# Altium schematic symbol library NNLightSwitcher.SchLib: 97 symbols (part 3 of 3)
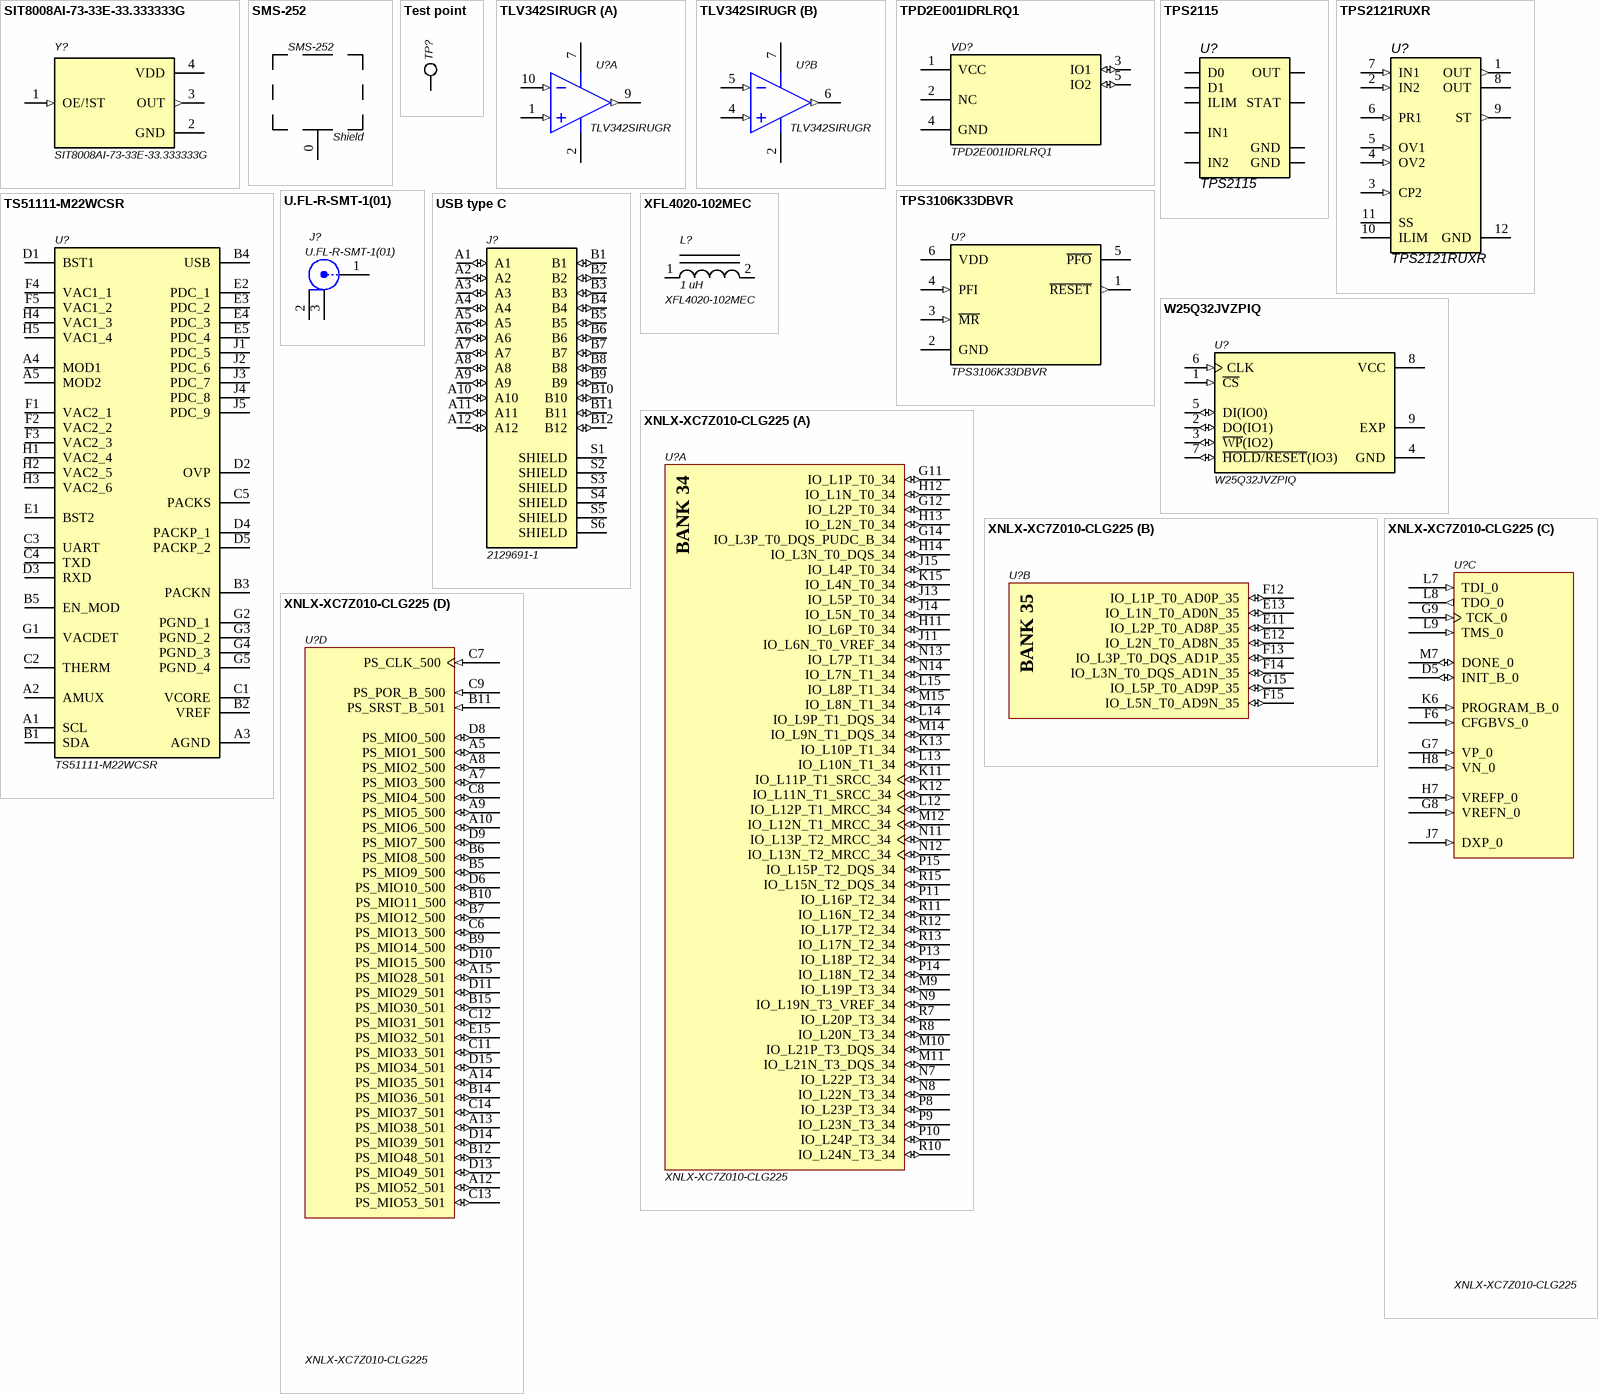
[diagram p6: symbols SIT8008AI-73-33E-33.333333G to XNLX-XC7Z010-CLG225]

## USB type C
designator J?, comment 2129691-1
Conn USB 3.1 Type C RCP 24 POS Solder RA SMD/Thru-Hole 24 Terminal 1 Port Automotive T/R; Manufacturer 1: TE Connectivity AMP; Product_Type: Connector; Centerline_Pitch: .5 mm[.019 in]; Number_of_Positions: 24; MF: TE Connectivity; Plating: Bright; Gender: Receptacle; Plating Thickness: 0.75um; Number of Ports: 1; USB Standard: USB 3.1; Contact Current Rating: 5A; Circuit Application: Signal; Connector System: Cable-to-Board; Pitch: 0.5mm; TE_purchase_URL: https://www.te.com/usa-en/product-2129691-1.html?te_bu=Cor&te_type=disp&te_campaign=seda_glo_cor-seda-global-disp-prtnr-fy19-seda-model-bom-cta_sma-317_1&elqCampaignId=32493; Package: None; MP: 2129691-1; Price: None; Availability: Unavailable; SnapEDA_Link: https://www.snapeda.com/parts/2129691-1/TE%20Connectivity%20AMP%20Connectors/view-part/?ref=snap; Value: *; Supplier 1: Mouser; Manufacturer Part Number 1: 2129691-1; Stock 1: 8733; Pricing 1: 1=2,88000, 10=2,76000, 25=2,53000, 50=2,42000, 100=2,30000, 250=2,01000, 500=1,96000, 1000=1,67000, 2000=1,65000, 10000=1,65000 (USD); RoHS: Yes; Mount: Surface Mount; Number of Pins: 24; Contact Material: Copper Alloy; Contact Plating: Nickel,Gold; Housing Color: Black; Housing Material: Thermoplastic; Min Operating Temperature: -30°C; Max Operating Temperature: 85°C; Orientation: Right Angle; Packaging: Tape and Reel; Termination: Solder; Connector Type: Receptacle; Number of Positions: 24; Length: 12.35mm; REACH SVHC: Unknown; Lead Free: Lead Free; ComponentLink1URL: https://media.digikey.com/pdf/Data%20Sheets/Tyco%20Electonics%20AMP%20PDFs/2129691_Dwg.pdf?src-supplier=Digi-Key; ComponentLink1Description: https://media.digikey.com/pdf/Data%20Sheets/Tyco%20Electonics%20AMP%20PDFs/2129691_Dwg.pdf?src-supplier=Digi-Key; ComponentLink2URL: http://www.farnell.com/datasheets/2292385.pdf?src-supplier=Farnell; ComponentLink2Description: http://www.farnell.com/datasheets/2292385.pdf?src-supplier=Farnell; ComponentLink3URL: http://www.farnell.com/datasheets/1993946.pdf?src-supplier=Farnell; ComponentLink3Description: http://www.farnell.com/datasheets/1993946.pdf?src-supplier=Farnell; ComponentLink4URL: http://www.alliedelec.com/images/products/datasheets/bm/TE_Connectivity/70718395.pdf?src-supplier=Allied+Electronics; ComponentLink4Description: http://www.alliedelec.com/images/products/datasheets/bm/TE_Connectivity/70718395.pdf?src-supplier=Allied+Electronics; ComponentLink5URL: http://www.farnell.com/cad/1993947.pdf?src-supplier=Element14; ComponentLink5Description: http://www.farnell.com/cad/1993947.pdf?src-supplier=Element14; ComponentLink6URL: http://www.farnell.com/datasheets/1993946.pdf?src-supplier=Element14; ComponentLink6Description: http://www.farnell.com/datasheets/1993946.pdf?src-supplier=Element14; ComponentLink7URL: http://www.te.com/commerce/DocumentDelivery/DDEController?Action=showdoc&DocId=Customer+Drawing%7F2129691%7F6%7Fpdf%7FEnglish%7FENG_CD_2129691_6.pdf%7F2129691-1&src-supplier=Avnet+Asia; ComponentLink7Description: http://www.te.com/commerce/DocumentDelivery/DDEController?Action=showdoc&DocId=Customer+Drawing%7F2129691%7F6%7Fpdf%7FEnglish%7FENG_CD_2129691_6.pdf%7F2129691-1&src-supplier=Avnet+Asia; ComponentLink8URL: http://www.te.com/commerce/DocumentDelivery/DDEController?Action=showdoc&DocId=Customer+Drawing%7F2129691%7F6%7Fpdf%7FEnglish%7FENG_CD_2129691_6.pdf%7F2129691-1&src-supplier=Avnet; ComponentLink8Description: http://www.te.com/commerce/DocumentDelivery/DDEController?Action=showdoc&DocId=Customer+Drawing%7F2129691%7F6%7Fpdf%7FEnglish%7FENG_CD_2129691_6.pdf%7F2129691-1&src-supplier=Avnet; Supplier Part Number 1: 571-2129691-1
footprint *TE_2129691-1_2129691-1(Primary)
pins: A1 (io), A2 (io), A3 (io), A4 (io), A5 (io), A6 (io), A7 (io), A8 (io), A9 (io), A10 (io), A11 (io), A12 (io), B1 (io), B2 (io), B3 (io), B4 (io), B5 (io), B6 (io), B7 (io), B8 (io), B9 (io), B10 (io), B11 (io), B12 (io), S1 SHIELD, S2 SHIELD, S3 SHIELD, S4 SHIELD, S5 SHIELD, S6 SHIELD

## W25Q32JVZPIQ
designator U?
Serial Flash Memory With Dual, Quad Spi; Manufacturer 1: Winbond; Supplier 1: Digi-Key; Manufacturer Part Number 1: W25Q32JVZPIQ; Stock 1: 58629; Pricing 1: 1=0,79000, 10=0,71800, 25=0,70880, 50=0,70500, 100=0,63030, 300=0,62487, 500=0,61576, 1000=0,59355, 5000=0,54075 (USD); RoHS: No; ComponentLink1URL: http://www.winbond.com/resource-files/w25q32jv%20revg%2003272018%20plus.pdf?src-supplier=Digi-Key; ComponentLink1Description: http://www.winbond.com/resource-files/w25q32jv%20revg%2003272018%20plus.pdf?src-supplier=Digi-Key; Supplier Part Number 1: W25Q32JVZPIQ-ND
footprint *SON127P600X500X80-9N
pins: 1 ~{CS} (in), 2 DO(IO1) (io), 3 ~{WP}(IO2) (io), 4 GND (power), 5 DI(IO0) (io), 6 CLK (in), 7 ~{HOLD/RESET}(IO3) (io), 8 VCC (power), 9 EXP

## XFL4020-102MEC
designator L?  value 1 uH
Power inductor, shielded, 20% tol, SMT, RoHS, halogen free; Manufacturer 1: Coilcraft; Core Material: Composite; Self Resonant Frequency: 64MHz; Inductance: 1uH; Max DC Current: 11A; DC Resistance (DCR): 11.9mR; Test Frequency: 100kHz; Saturation Current: 4.5A; Supplier 1: Mouser; Manufacturer Part Number 1: XFL4020-102MEC; Stock 1: 16834; Pricing 1: 1=2,13000, 10=2,13000, 50=1,85000, 100=1,55000, 500=0,96000, 1000=0,88400, 2000=0,82300, 10000=0,82300 (USD); RoHS: Yes; Mount: Surface Mount; Case/Package: SMD/SMT; Min Operating Temperature: -40°C; Max Operating Temperature: 125°C; Packaging: Tape and Reel; Tolerance: 20%; Shielding: Shielded; Termination: SMD/SMT; Inductance Tolerance: 20%; RMS Current (Irms): 11A; Length: 4.3mm; Height: 2.1mm; Width: 4.3mm; Lead Free: Contains Lead; REACH SVHC: No SVHC; ComponentLink1URL: https://datasheet.ciiva.com/22679/1682010-22679273.pdf?src-supplier=Element14; ComponentLink1Description: https://datasheet.ciiva.com/22679/1682010-22679273.pdf?src-supplier=Element14; ComponentLink2URL: https://datasheet.ciiva.com/22679/1682010-22679274.pdf?src-supplier=Element14; ComponentLink2Description: https://datasheet.ciiva.com/22679/1682010-22679274.pdf?src-supplier=Element14; ComponentLink3URL: https://datasheet.ciiva.com/13168/xfl4020-13168079.pdf?src-supplier=Mouser; ComponentLink3Description: https://datasheet.ciiva.com/13168/xfl4020-13168079.pdf?src-supplier=Mouser; Supplier Part Number 1: 994-XFL4020-102MEC
footprint *INDM4040X210
pins: 1, 2

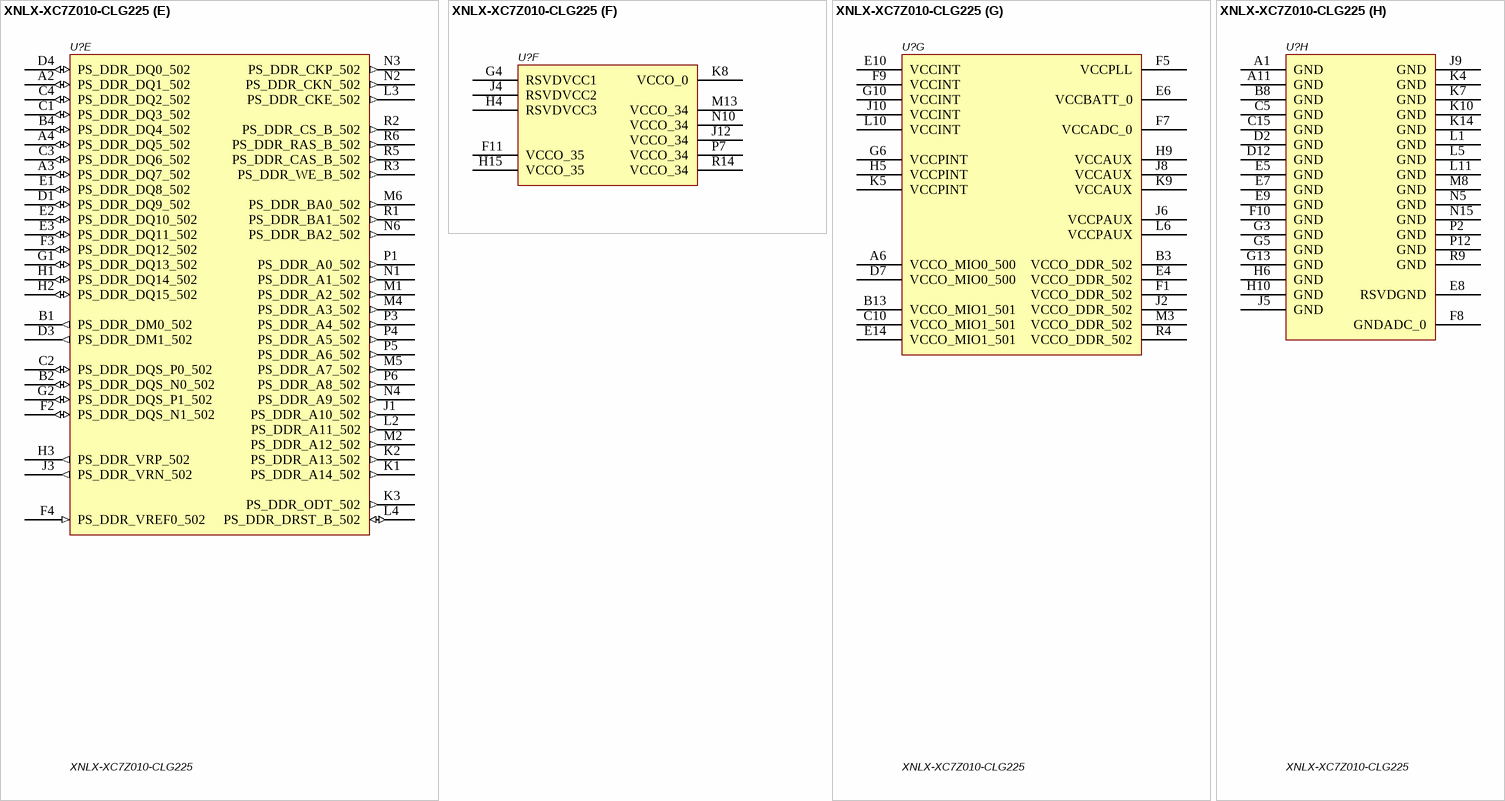
[diagram p4: symbol XNLX-XC7Z010-CLG225]

## XNLX-XC7Z010-CLG225
designator U?
IC SOC CORTEX-A9 ARTIX-7 225BGA; Manufacturer 1: Xilinx; Manufacturer Part Number 1: XC7Z010-1CLG400I; Interface: I2C,SPI,USB,CAN,Ethernet,MMC,SDIO,SD,UART,USART,EBI/EMI; Frequency: 667MHz; Core Architecture: ARM; Number of I/Os: 130; Peripherals: DMA; Data Bus Width: 32b; Operating Supply Voltage: 1V; Speed Grade: -1; ComponentLink1URL: https://datasheet.ciiva.com/48476/ds190-zynq-7000-overview-48476886.pdf?src-supplier=Avnet; ComponentLink1Description: https://datasheet.ciiva.com/48476/ds190-zynq-7000-overview-48476886.pdf?src-supplier=Avnet; ComponentLink2URL: https://datasheet.ciiva.com/14849/ds187-xc7z010-xc7z020-data-sheet-14849932.pdf?src-supplier=Digi-Key; ComponentLink2Description: https://datasheet.ciiva.com/14849/ds187-xc7z010-xc7z020-data-sheet-14849932.pdf?src-supplier=Digi-Key; Supplier 1: Digi-Key; Stock 1: 241; Pricing 1: 1=72,17000 (USD); RoHS: Yes; Case/Package: BGA; Number of Pins: 400; Contact Plating: Copper,Tin,Silver; Min Operating Temperature: -40°C; Max Operating Temperature: 100°C; Packaging: Tray; Max Frequency: 667MHz; Package Quantity: 90; Radiation Hardening: No; ComponentLink3URL: https://datasheet.ciiva.com/48476/ds190-zynq-7000-overview-48476887.pdf?src-supplier=Avnet; ComponentLink3Description: https://datasheet.ciiva.com/48476/ds190-zynq-7000-overview-48476887.pdf?src-supplier=Avnet; Supplier 2: Mouser; Manufacturer 2: Xilinx; Manufacturer Part Number 2: XC7Z010-1CLG400I; Stock 2: 180; Pricing 2: 1=72,16000, 10=72,16000, 50=72,16000, 100=72,16000, 1000=72,16000, 10000=72,16000 (USD); Supplier Part Number 1: 122-1963-ND; Supplier Part Number 2: 217-XC7Z010-1CLG400I
footprint CLG225 (BGA, 225-Balls, Body 13x13mm, Pitch 0.8mm)
part A pins: G11 IO_L1P_T0_34 (io), G12 IO_L2P_T0_34 (io), G14 IO_L3P_T0_DQS_PUDC_B_34 (io), H11 IO_L6P_T0_34 (io), H12 IO_L1N_T0_34 (io), H13 IO_L2N_T0_34 (io), H14 IO_L3N_T0_DQS_34 (io), J11 IO_L6N_T0_VREF_34 (io), J13 IO_L5P_T0_34 (io), J14 IO_L5N_T0_34 (io), J15 IO_L4P_T0_34 (io), K11 IO_L11P_T1_SRCC_34 (io), K12 IO_L11N_T1_SRCC_34 (io), K13 IO_L10P_T1_34 (io), K15 IO_L4N_T0_34 (io), L12 IO_L12P_T1_MRCC_34 (io), L13 IO_L10N_T1_34 (io), L14 IO_L9P_T1_DQS_34 (io), L15 IO_L8P_T1_34 (io), M9 IO_L19P_T3_34 (io), M10 IO_L21P_T3_DQS_34 (io), M11 IO_L21N_T3_DQS_34 (io), M12 IO_L12N_T1_MRCC_34 (io), M14 IO_L9N_T1_DQS_34 (io), M15 IO_L8N_T1_34 (io), N7 IO_L22P_T3_34 (io), N8 IO_L22N_T3_34 (io), N9 IO_L19N_T3_VREF_34 (io), N11 IO_L13P_T2_MRCC_34 (io), N12 IO_L13N_T2_MRCC_34 (io), N13 IO_L7P_T1_34 (io), N14 IO_L7N_T1_34 (io), P8 IO_L23P_T3_34 (io), P9 IO_L23N_T3_34 (io), P10 IO_L24P_T3_34 (io), P11 IO_L16P_T2_34 (io), P13 IO_L18P_T2_34 (io), P14 IO_L18N_T2_34 (io), P15 IO_L15P_T2_DQS_34 (io), R7 IO_L20P_T3_34 (io), R8 IO_L20N_T3_34 (io), R10 IO_L24N_T3_34 (io), R11 IO_L16N_T2_34 (io), R12 IO_L17P_T2_34 (io), R13 IO_L17N_T2_34 (io), R15 IO_L15N_T2_DQS_34 (io)
part B pins: E11 IO_L2P_T0_AD8P_35 (io), E12 IO_L2N_T0_AD8N_35 (io), E13 IO_L1N_T0_AD0N_35 (io), F12 IO_L1P_T0_AD0P_35 (io), F13 IO_L3P_T0_DQS_AD1P_35 (io), F14 IO_L3N_T0_DQS_AD1N_35 (io), F15 IO_L5N_T0_AD9N_35 (io), G15 IO_L5P_T0_AD9P_35 (io)
part C pins: D5 INIT_B_0 (io), F6 CFGBVS_0 (in), G7 VP_0 (in), G8 VREFN_0 (in), G9 TCK_0 (in), H7 VREFP_0 (in), H8 VN_0 (in), J7 DXP_0 (in), K6 PROGRAM_B_0 (in), L7 TDI_0 (in), L8 TDO_0 (out), L9 TMS_0 (in), M7 DONE_0 (io)
part D pins: A5 PS_MIO1_500 (io), A7 PS_MIO3_500 (io), A8 PS_MIO2_500 (io), A9 PS_MIO5_500 (io), A10 PS_MIO6_500 (io), A12 PS_MIO52_501 (io), A13 PS_MIO38_501 (io), A14 PS_MIO35_501 (io), A15 PS_MIO28_501 (io), B5 PS_MIO9_500 (io), B6 PS_MIO8_500 (io), B7 PS_MIO12_500 (io), B9 PS_MIO14_500 (io), B10 PS_MIO11_500 (io), B11 PS_SRST_B_501 (in), B12 PS_MIO48_501 (io), B14 PS_MIO36_501 (io), B15 PS_MIO30_501 (io), C6 PS_MIO13_500 (io), C7 PS_CLK_500 (in), C8 PS_MIO4_500 (io), C9 PS_POR_B_500 (in), C11 PS_MIO33_501 (io), C12 PS_MIO31_501 (io), C13 PS_MIO53_501 (io), C14 PS_MIO37_501 (io), D6 PS_MIO10_500 (io), D8 PS_MIO0_500 (io), D9 PS_MIO7_500 (io), D10 PS_MIO15_500 (io), D11 PS_MIO29_501 (io), D13 PS_MIO49_501 (io), D14 PS_MIO39_501 (io), D15 PS_MIO34_501 (io), E15 PS_MIO32_501 (io)
part E pins: A2 PS_DDR_DQ1_502 (io), A3 PS_DDR_DQ7_502 (io), A4 PS_DDR_DQ5_502 (io), B1 PS_DDR_DM0_502 (out), B2 PS_DDR_DQS_N0_502 (io), B4 PS_DDR_DQ4_502 (io), C1 PS_DDR_DQ3_502 (io), C2 PS_DDR_DQS_P0_502 (io), C3 PS_DDR_DQ6_502 (io), C4 PS_DDR_DQ2_502 (io), D1 PS_DDR_DQ9_502 (io), D3 PS_DDR_DM1_502 (out), D4 PS_DDR_DQ0_502 (io), E1 PS_DDR_DQ8_502 (io), E2 PS_DDR_DQ10_502 (io), E3 PS_DDR_DQ11_502 (io), F2 PS_DDR_DQS_N1_502 (io), F3 PS_DDR_DQ12_502 (io), F4 PS_DDR_VREF0_502 (in), G1 PS_DDR_DQ13_502 (io), G2 PS_DDR_DQS_P1_502 (io), H1 PS_DDR_DQ14_502 (io), H2 PS_DDR_DQ15_502 (io), H3 PS_DDR_VRP_502 (out), J1 PS_DDR_A10_502 (out), J3 PS_DDR_VRN_502 (out), K1 PS_DDR_A14_502 (out), K2 PS_DDR_A13_502 (out), K3 PS_DDR_ODT_502 (out), L2 PS_DDR_A11_502 (out), L3 PS_DDR_CKE_502 (out), L4 PS_DDR_DRST_B_502 (io), M1 PS_DDR_A2_502 (out), M2 PS_DDR_A12_502 (out), M4 PS_DDR_A3_502 (out), M5 PS_DDR_A7_502 (out), M6 PS_DDR_BA0_502 (out), N1 PS_DDR_A1_502 (out), N2 PS_DDR_CKN_502 (out), N3 PS_DDR_CKP_502 (out), N4 PS_DDR_A9_502 (out), N6 PS_DDR_BA2_502 (out), P1 PS_DDR_A0_502 (out), P3 PS_DDR_A4_502 (out), P4 PS_DDR_A5_502 (out), P5 PS_DDR_A6_502 (out), P6 PS_DDR_A8_502 (out), R1 PS_DDR_BA1_502 (out), R2 PS_DDR_CS_B_502 (out), R3 PS_DDR_WE_B_502 (out), R5 PS_DDR_CAS_B_502 (out), R6 PS_DDR_RAS_B_502 (out)
part F pins: F11 VCCO_35 (power), G4 RSVDVCC1 (power), H4 RSVDVCC3 (power), H15 VCCO_35 (power), J4 RSVDVCC2 (power), J12 VCCO_34 (power), K8 VCCO_0 (power), M13 VCCO_34 (power), N10 VCCO_34 (power), P7 VCCO_34 (power), R14 VCCO_34 (power)
part G pins: A6 VCCO_MIO0_500 (power), B3 VCCO_DDR_502 (power), B13 VCCO_MIO1_501 (power), C10 VCCO_MIO1_501 (power), D7 VCCO_MIO0_500 (power), E4 VCCO_DDR_502 (power), E6 VCCBATT_0 (power), E10 VCCINT (power), E14 VCCO_MIO1_501 (power), F1 VCCO_DDR_502 (power), F5 VCCPLL (power), F7 VCCADC_0 (power), F9 VCCINT (power), G6 VCCPINT (power), G10 VCCINT (power), H5 VCCPINT (power), H9 VCCAUX (power), J2 VCCO_DDR_502 (power), J6 VCCPAUX (power), J8 VCCAUX (power), J10 VCCINT (power), K5 VCCPINT (power), K9 VCCAUX (power), L6 VCCPAUX (power), L10 VCCINT (power), M3 VCCO_DDR_502 (power), R4 VCCO_DDR_502 (power)
part H pins: A1 GND (power), A11 GND (power), B8 GND (power), C5 GND (power), C15 GND (power), D2 GND (power), D12 GND (power), E5 GND (power), E7 GND (power), E8 RSVDGND (power), E9 GND (power), F8 GNDADC_0 (power), F10 GND (power), G3 GND (power), G5 GND (power), G13 GND (power), H6 GND (power), H10 GND (power), J5 GND (power), J9 GND (power), K4 GND (power), K7 GND (power), K10 GND (power), K14 GND (power), L1 GND (power), L5 GND (power), L11 GND (power), M8 GND (power), N5 GND (power), N15 GND (power), P2 GND (power), P12 GND (power), R9 GND (power)
part A text: BANK 34
part B text: BANK 35